# Altium schematic symbol library Sch.SchLib: 65 symbols
Pins are listed as number, name and electrical type; pins without a type are passive.

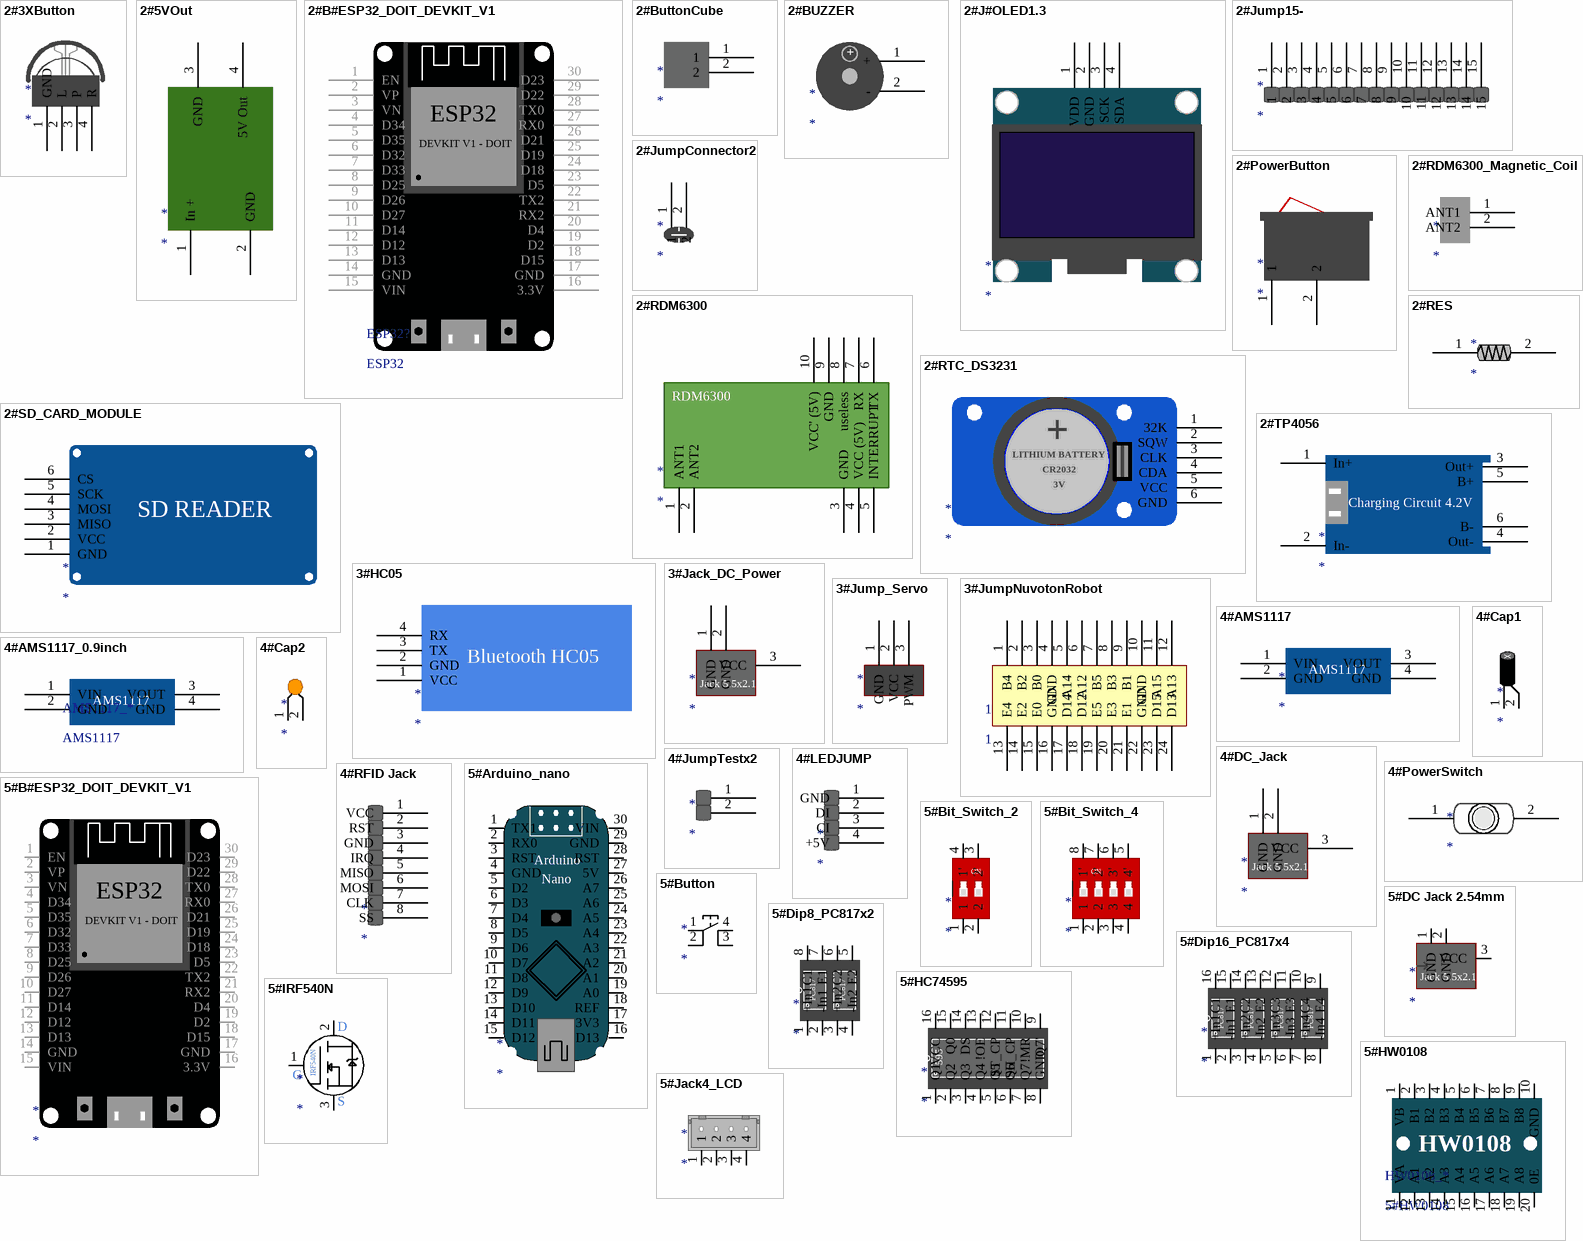
[diagram p0: symbols 2#3XButton to 5#Jack4_LCD]

## 2#3XButton
designator *
footprint 2#3XButton
pins: 1 GND, 2 L, 3 P, 4 R

## 2#5VOut
designator *
footprint 2#5VOut
pins: 1 In +, 2 GND, 3 GND, 4 5V Out

## 2#B#ESP32_DOIT_DEVKIT_V1
designator ESP32?, comment ESP32
footprint 2#1.5mmHole#ESP32 (ESP32 DEVKIT V1)
footprint 2#ESP32_DEVKIT_V1 (ESP32 DEVKIT V1)
pins: 1 EN, 2 VP, 3 VN, 4 D34, 5 D35, 6 D32, 7 D33, 8 D25, 9 D26, 10 D27, 11 D14, 12 D12, 13 D13, 14 GND, 15 VIN, 16 3.3V, 17 GND, 18 D15, 19 D2, 20 D4, 21 RX2, 22 TX2, 23 D5, 24 D18, 25 D19, 26 D21, 27 RX0, 28 TX0, 29 D22, 30 D23
text: DEVKIT V1 - DOIT

## 2#ButtonCube
designator *
footprint 2#ButtonCube
pins: 1, 2

## 2#BUZZER
designator *
footprint 2#BUZZER (BUZZER)
pins: 1 +, 2 -

## 2#J#OLED1.3
designator *
footprint 2#Jump4#OLED_1.3 (OLED_1.3)
pins: 1 VDD, 2 GND, 3 SCK, 4 SDA

## 2#Jump15-
designator *
footprint 2#Jump15- (Jump15-)
pins: 1, 2, 3, 4, 5, 6, 7, 8, 9, 10, 11, 12, 13, 14, 15

## 2#JumpConnector2
designator *
footprint 2#JumpConnector2 (JumpConnector2)
pins: 1, 2

## 2#PowerButton
designator *
footprint 4#PowerSwitch
pins: 1, 2

## 2#RDM6300
designator *
footprint 2#RDM6300 (RDM6300)
pins: 1 ANT1 (power), 2 ANT2, 3 GND, 4 VCC (5V) (power), 5 INTERRUPT, 6 TX, 7 RX, 8 useless, 9 GND, 10 VCC' (5V)
text: RDM6300

## 2#RDM6300_Magnetic_Coil
designator *
footprint 2#RDM6300_Magnetic_Coil (RDM6300_Magnetic_Coil)
pins: 1 ANT1, 2 ANT2

## 2#RES
designator *
footprint 2#RES
pins: 1, 2

## 2#RTC_DS3231
designator *
footprint 2#RTC_DS3231 (RTC_DS3231)
pins: 1 32K, 2 SQW, 3 CLK, 4 CDA, 5 VCC, 6 GND
text: +; LITHIUM BATTERY; CR2032; 3V

## 2#SD_CARD_MODULE
designator *
footprint 2#SD_READER (SD_READER)
pins: 1 GND, 2 VCC, 3 MISO, 4 MOSI, 5 SCK, 6 CS
text: SD READER

## 2#TP4056
designator *
footprint 2#TP4056
pins: 1 In+, 2 In-, 3 Out+, 4 Out-, 5 B+, 6 B-
text: Charging Circuit 4.2V

## 3#HC05
designator *
footprint 3#HC05
pins: 1 VCC, 2 GND, 3 TX, 4 RX
text: Bluetooth HC05

## 3#Jack_DC_Power
designator *
footprint 3#Jack_DC_Power
pins: 1 GND, 2 GND, 3 VCC
text: Jack 5.5x2.1

## 3#Jump_Servo
designator *
footprint 3#Jump_Servo
pins: 1 GND, 2 VCC, 3 PWM

## 3#JumpNuvotonRobot
designator 1, comment 1
footprint 3#JumpNuvotonRobot
pins: 1 B4, 2 B2, 3 B0, 4 GND, 5 A14, 6 A12, 7 B5, 8 B3, 9 B1, 10 GND, 11 A15, 12 A13, 13 E4, 14 E2, 15 E0, 16 GND, 17 D14, 18 D12, 19 E5, 20 E3, 21 E1, 22 GND, 23 D15, 24 D13

## 4#AMS1117
designator *
footprint 4#AMS1117
pins: 1 VIN, 2 GND, 3 VOUT, 4 GND
text: AMS1117

## 4#AMS1117_0.9inch
designator AMS1117_*, comment AMS1117
footprint 4#AMS1117_0.9inch
pins: 1 VIN, 2 GND, 3 VOUT, 4 GND

## 4#Cap1
designator *
footprint 4#Cap1
pins: 1 +, 2

## 4#Cap2
designator *
footprint 4#Cap2
pins: 1, 2

## 4#DC_Jack
designator *
footprint 4#DC_Jack
pins: 1 GND, 2 GND, 3 VCC
text: Jack 5.5x2.1

## 4#JumpTestx2
designator *
footprint 4#JumpTEST
pins: 1, 2

## 4#LEDJUMP
designator *
footprint 4#LEDJump
pins: 1 GND, 2 DI, 3 CI, 4 +5V

## 4#PowerSwitch
designator *
footprint 4#PowerSwitch
pins: 1, 2

## 4#RFID Jack
designator *
footprint 4#Jump8
pins: 1 VCC, 2 RST, 3 GND, 4 IRQ, 5 MISO, 6 MOSI, 7 CLK, 8 SS

## 5#Arduino_nano
designator *
footprint 5#Arduino_Nano
pins: 1 TX1, 2 RX0, 3 RST, 4 GND, 5 D2, 6 D3, 7 D4, 8 D5, 9 D6, 10 D7, 11 D8, 12 D9, 13 D10, 14 D11, 15 D12, 16 D13, 17 3V3, 18 REF, 19 A0, 20 A1, 21 A2, 22 A3, 23 A4, 24 A5, 25 A6, 26 A7, 27 5V, 28 RST, 29 GND, 30 VIN
text: Arduino; Nano

## 5#B#ESP32_DOIT_DEVKIT_V1
designator *
footprint 5#ESP32_DEVKIT_V1
pins: 1 EN, 2 VP, 3 VN, 4 D34, 5 D35, 6 D32, 7 D33, 8 D25, 9 D26, 10 D27, 11 D14, 12 D12, 13 D13, 14 GND, 15 VIN, 16 3.3V, 17 GND, 18 D15, 19 D2, 20 D4, 21 RX2, 22 TX2, 23 D5, 24 D18, 25 D19, 26 D21, 27 RX0, 28 TX0, 29 D22, 30 D23
text: ESP32; DEVKIT V1 - DOIT

## 5#Bit_Switch_2
designator *
footprint 5#Bit_Switch_2
pins: 1, 2, 3 2', 4 1'
text: ON

## 5#Bit_Switch_4
designator *
footprint 5#Bit_Switch_4
pins: 1, 2, 3, 4, 5 4', 6 3', 7 2', 8 1'
text: ON

## 5#Button
designator *
footprint 5#Button
pins: 1, 2, 3, 4 3

## 5#DC Jack 2.54mm
designator *
footprint 5#DC Jack 2.54mm
pins: 1 GND, 2 GND, 3 VCC
text: Jack 5.5x2.1

## 5#Dip8_PC817x2
designator *
footprint 5#Dip8_PC817x2
pins: 1 +In1, 2 -In1, 3 +In2, 4 -In2, 5 E2, 6 C2, 7 E1, 8 C1
text: PC817

## 5#Dip16_PC817x4
designator *
footprint 5#Dip16_PC817x4
pins: 1 +In1, 2 -In1, 3 +In2, 4 -In2, 5 +In3, 6 -In3, 7 +In4, 8 -In4, 9 E4, 10 C4, 11 E3, 12 C3, 13 E2, 14 C2, 15 E1, 16 C1
text: PC817

## 5#HC74595
designator *
footprint 5#HC74595
pins: 1 Q1, 2 Q2, 3 Q3, 4 Q4, 5 Q5, 6 Q6, 7 Q7, 8 GND, 9 Q7', 10 !MR, 11 SH_CP, 12 ST_CP, 13 !OE, 14 DS, 15 Q0, 16 VCC
text: 595

## 5#HW0108
designator HW0108_*
footprint 5#HW0108
pins: 1 VB, 2 B1, 3 B2, 4 B3, 5 B4, 6 B5, 7 B6, 8 B7, 9 B8, 10 GND, 11 VA, 12 A1, 13 A2, 14 A3, 15 A4, 16 A5, 17 A6, 18 A7, 19 A8, 20 0E
text: HW0108

## 5#IRF540N
designator *
footprint 5#IRF540N
pins: 1 G, 2 D, 3 S
text: IRF540N

## 5#Jack4_LCD
designator *
footprint 5#Jack4_LCD
pins: 1, 2, 3, 4

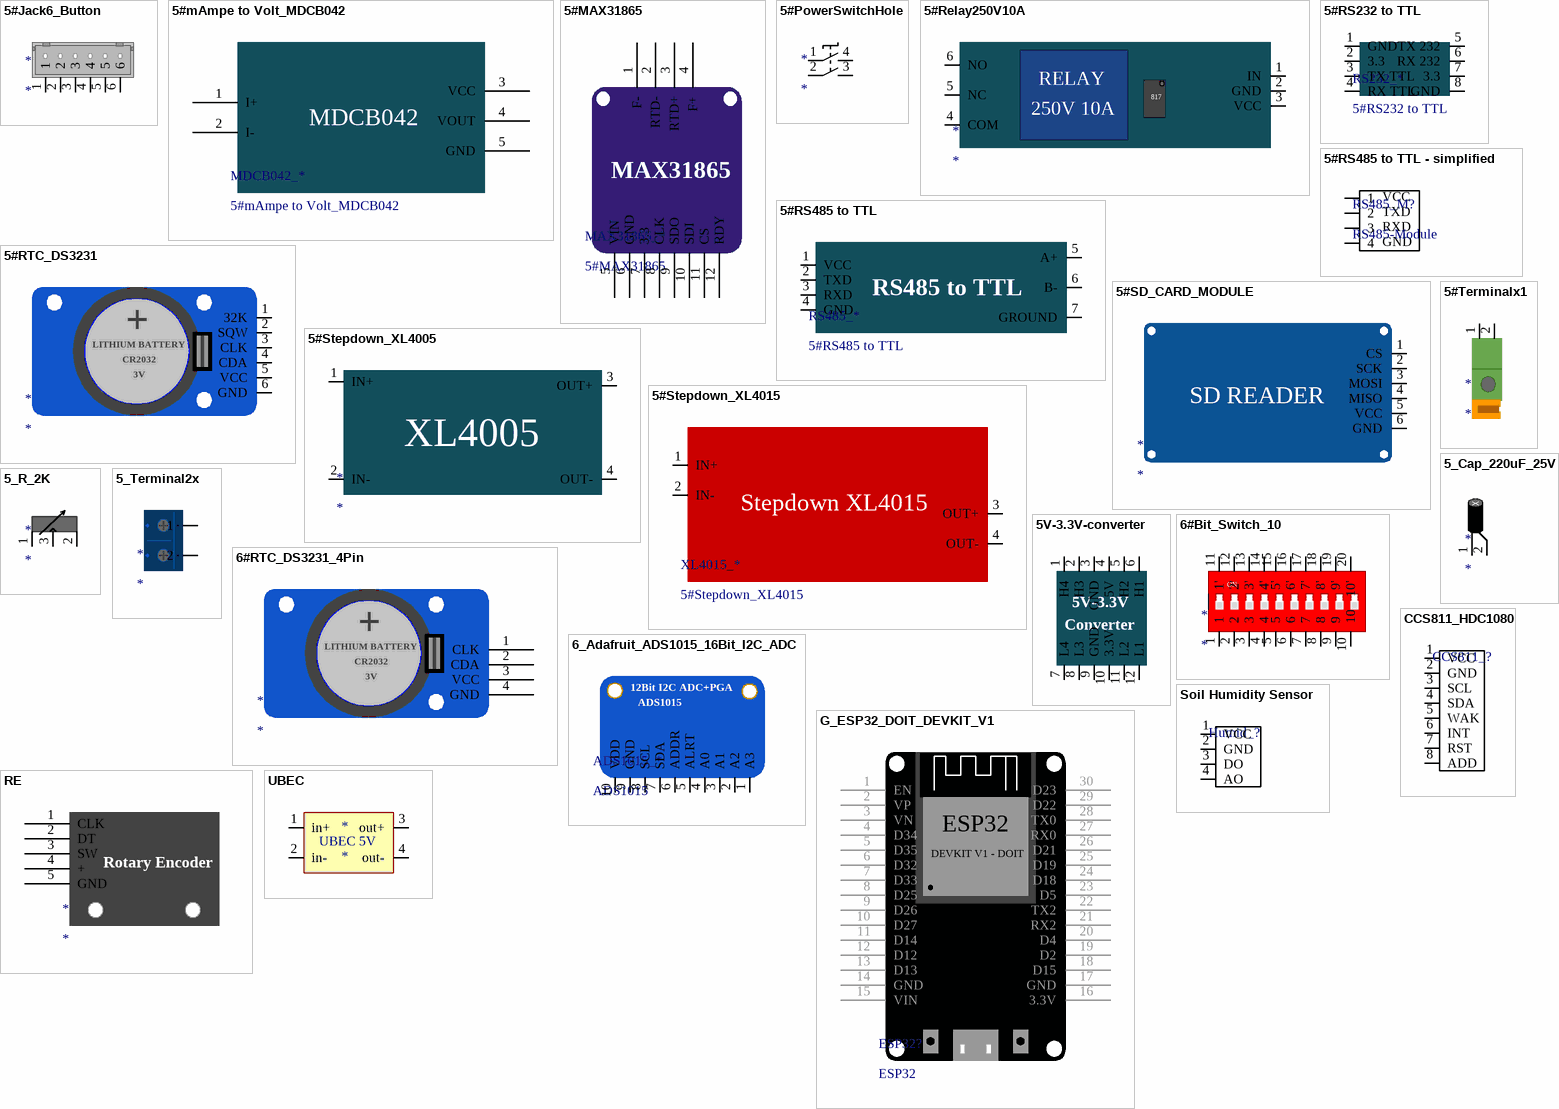
[diagram p1: symbols 5#Jack6_Button to UBEC]

## 5#Jack6_Button
designator *
footprint 5#Jack6_Button
pins: 1, 2, 3, 4, 5, 6

## 5#mAmpe to Volt_MDCB042
designator MDCB042_*
footprint 5#mAmpe to Volt_MDCB042
pins: 1 I+, 2 I-, 3 VCC, 4 VOUT, 5 GND
text: MDCB042

## 5#MAX31865
designator MAX31865_*
footprint 5#MAX31865
pins: 1 F-, 2 RTD-, 3 RTD+, 4 F+, 5 VIN, 6 GND, 7 3.3, 8 CLK, 9 SDO, 10 SDI, 11 CS, 12 RDY
text: MAX31865

## 5#PowerSwitchHole
designator *
footprint 5#PowerSwitchHole
pins: 1, 2, 3, 4 3

## 5#Relay250V10A
designator *
footprint 5#Relay250V10A
pins: 1 IN, 2 GND, 3 VCC, 4 COM, 5 NC, 6 NO
text: RELAY; 817; 250V 10A

## 5#RS232 to TTL
designator RS232_*
footprint 5#RS232 to TTL
pins: 1 GND, 2 3.3, 3 TX TTL, 4 RX TTL, 5 TX 232, 6 RX 232, 7 3.3, 8 GND

## 5#RS485 to TTL
designator RS485_*
https://www.thegioiic.com/products/mach-chuyen-doi-rs485-to-ttl
footprint 5#RS485 to TTL
pins: 1 VCC, 2 TXD, 3 RXD, 4 GND, 5 A+, 6 B-, 7 GROUND
text: RS485 to TTL

## 5#RS485 to TTL - simplified
designator RS485_M?, comment RS485-Module
https://www.thegioiic.com/products/mach-chuyen-doi-rs485-to-ttl
footprint 5#RS485 to TTL - SIMPLIFIED (5#RS485 to TTL module)
pins: 1, 2, 3, 4
text: VCC; TXD; RXD; GND

## 5#RTC_DS3231
designator *
footprint 5#RTC_DS3231 (RTC_DS3231)
pins: 1 32K, 2 SQW, 3 CLK, 4 CDA, 5 VCC, 6 GND
text: +; LITHIUM BATTERY; CR2032; 3V

## 5#SD_CARD_MODULE
designator *
footprint 5#SD_READER (SD_READER)
pins: 1 CS, 2 SCK, 3 MOSI, 4 MISO, 5 VCC, 6 GND
text: SD READER

## 5#Stepdown_XL4005
designator *
footprint 5#Stepdown_XL4005
pins: 1 IN+, 2 IN-, 3 OUT+, 4 OUT-
text: XL4005

## 5#Stepdown_XL4015
designator XL4015_*
footprint 5#Stepdown_XL4015
pins: 1 IN+, 2 IN-, 3 OUT+, 4 OUT-
text: Stepdown XL4015

## 5#Terminalx1
designator *
footprint 5#Terminalx1
pins: 1, 2

## 5_Cap_220uF_25V
designator *
footprint 5_Cap_220uF_25V
pins: 1 +, 2

## 5_R_2K
designator *
footprint 5_R_2k
pins: 1, 2, 3

## 5_Terminal2x
designator *
footprint 5_Terminal2x
pins: 1, 2

## 5V-3.3V-converter
designator Converter_*, comment Bidirection converter  (value not drawn)
footprint 5V_3V3_Converter (Bidirectional 5V to 3V3 converter)
pins: 1 H4, 2 H3, 3 GND, 4 5V, 5 H2, 6 H1, 7 L4, 8 L3, 9 GND, 10 3.3V, 11 L2, 12 L1
text: 5V-3.3V; Converter

## 6#Bit_Switch_10
designator *
footprint 6#Bit_Switch_10
pins: 1, 2, 3, 4, 5, 6, 7, 8, 9, 10, 11 1', 12 2', 13 3', 14 4', 15 5', 16 6', 17 7', 18 8', 19 9', 20 10'
text: ON

## 6#RTC_DS3231_4Pin
designator *
footprint 6#RTC_DS3231_4Pin (RTC_DS3231)
pins: 1 CLK, 2 CDA, 3 VCC, 4 GND
text: +; LITHIUM BATTERY; CR2032; 3V

## 6_Adafruit_ADS1015_16Bit_I2C_ADC
designator ADS1015_*, comment ADS1015
footprint 6_ADS1015 (ADS1015)
pins: 1 A3, 2 A2, 3 A1, 4 A0, 5 ALRT, 6 ADDR, 7 SDA, 8 SCL, 9 GND, 10 VDD
text: 12Bit I2C ADC+PGA

## CCS811_HDC1080
designator CCS811_?
https://www.thegioiic.com/products/ccs811-mach-cam-bien-khi-co-chat-luong-khong-khi
footprint CSS811-MODULE-TER-J8x1-F-2.54mm (8 row, straight, gold plating, JP8-C1T)
pins: 1 VCC, 2 GND, 3 SCL, 4 SDA, 5 WAK, 6 INT, 7 RST, 8 ADD

## G_ESP32_DOIT_DEVKIT_V1
designator ESP32?, comment ESP32
footprint G_ESP32_DEVKIT_V1 (ESP32 DEVKIT V1); pin to pad 17>14
pins: 1 EN, 2 VP, 3 VN, 4 D34, 5 D35, 6 D32, 7 D33, 8 D25, 9 D26, 10 D27, 11 D14, 12 D12, 13 D13, 14 GND, 15 VIN, 16 3.3V, 17 GND, 18 D15, 19 D2, 20 D4, 21 RX2, 22 TX2, 23 D5, 24 D18, 25 D19, 26 D21, 27 RX0, 28 TX0, 29 D22, 30 D23
text: DEVKIT V1 - DOIT

## RE
designator *
footprint RE (Rotary Encoder)
pins: 1 CLK, 2 DT, 3 SW, 4 +, 5 GND
text: Rotary Encoder

## Soil Humidity Sensor
designator Humid_?
https://www.thegioiic.com/products/cam-bien-do-am-dat-dau-do-chong-an-mon
footprint SOIL_HUMID_TER-J4x1-F-2.54mm (4 row, straight, gold plating, JP4-C1T)
pins: 1 VCC, 2 GND, 3 DO, 4 AO

## UBEC
designator *
footprint UBEC (Converter to 5V - 3A max 5A)
pins: 1 in+, 2 in-, 3 out+, 4 out-
text: UBEC 5V